# Altium footprint library XH-MegaStar_2.5mm.PcbLib: 18 footprints (part 1 of 2)
Each footprint in its own frame and in the unit in brackets; x right, y up, seen from the top. Pads: shape width x height; smd on the part's side, far side on the other; paste and mask are expansions set on the pad; w line width, h text height; cw(c..) or ccw(c..) is an arc to the next point about the centre after c.
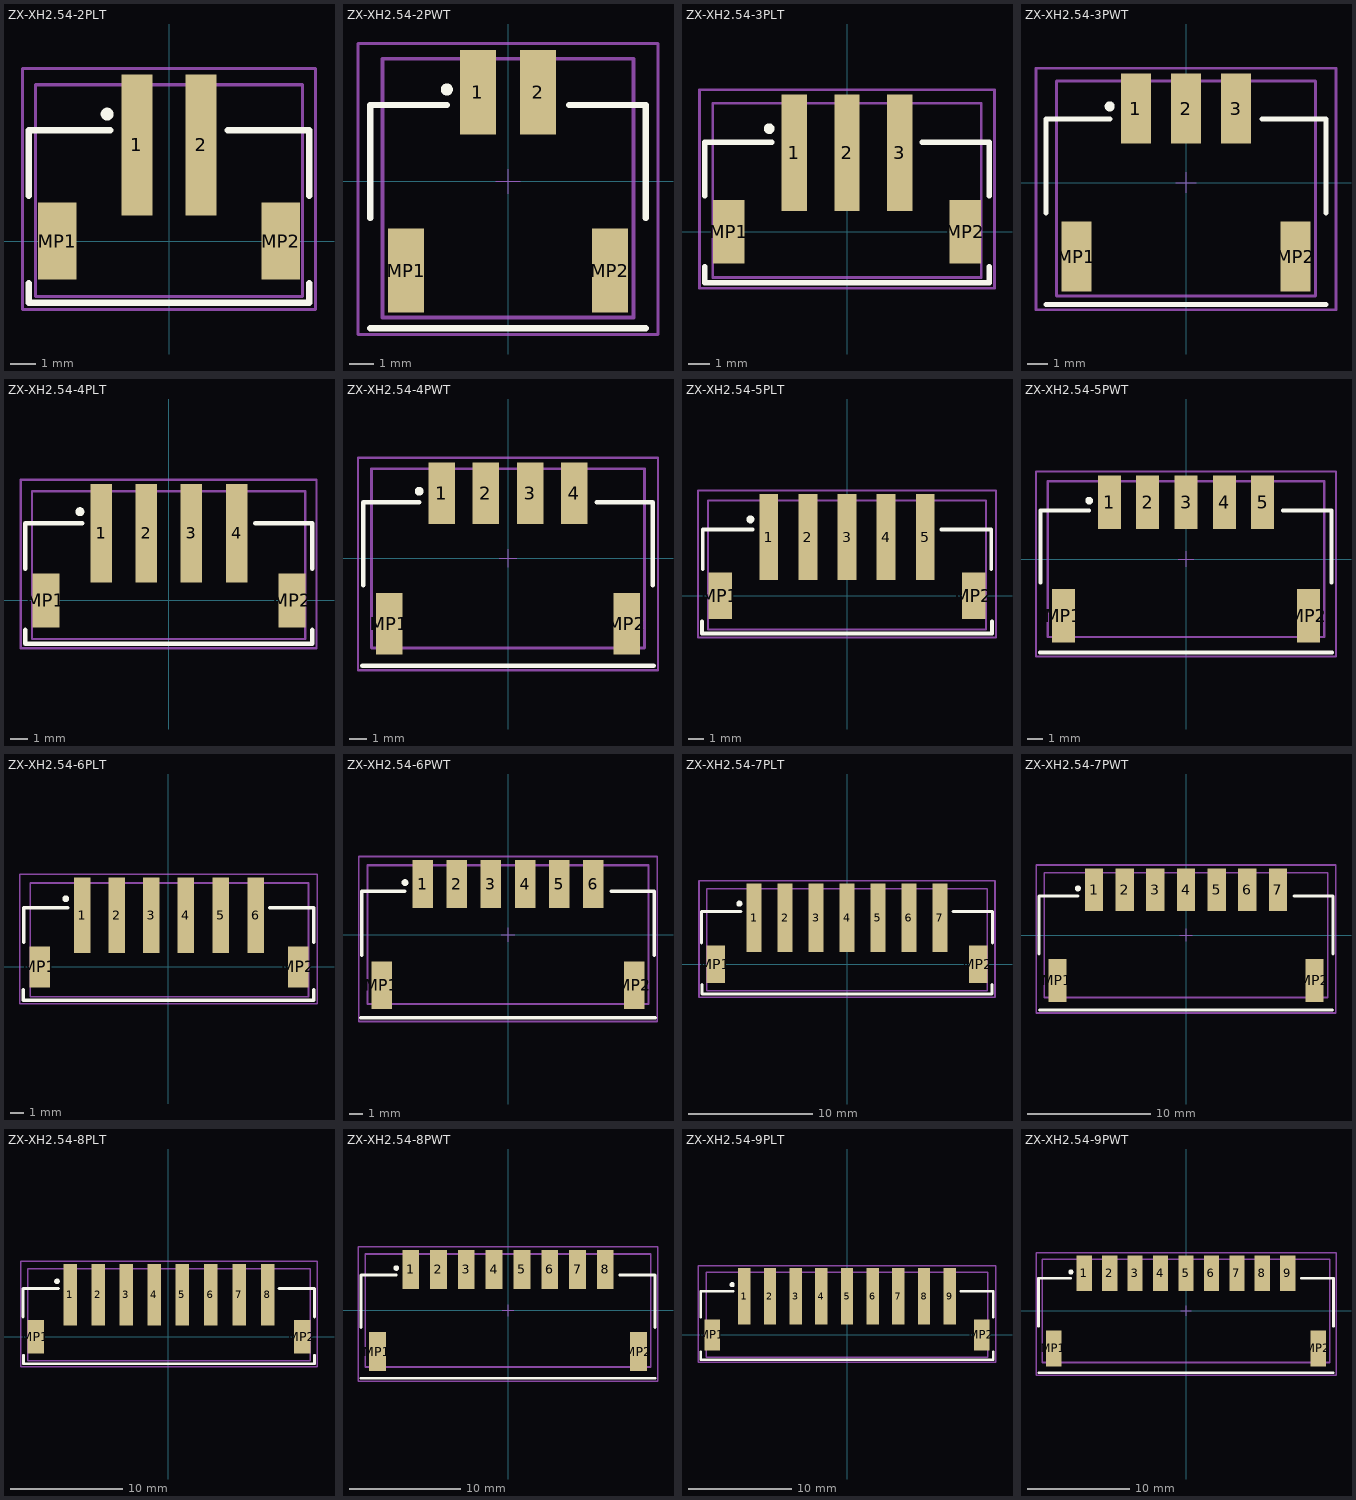
[diagram p0: the footprints below, top view; thin cyan lines are the x and y axes]

## ZX-XH2.54-2PLT [mm]
pads (4):
  rect 1.2x5.5 smd: 1(-1.25,3.75) 2(1.25,3.75)
  rect 1.5x3 smd: MP1(-4.35,0) MP2(4.35,0)
Top Overlay:
  circle w0.25: c-2.413,4.953 r0.125
  lines w0.254: -5.461,-1.651 -5.461,-2.413 5.461,-2.413 5.461,-1.651 ; -5.461,1.778 -5.461,4.318 -2.286,4.318 ; 2.286,4.318 5.461,4.318 5.461,1.778
Top Designator:
  text ".Designator" at -5.998,-0.4 h1.2
Mechanical 13:
  lines w0.127: -5.207,-2.159 5.207,-2.159 5.207,6.096 -5.207,6.096 -5.207,-2.159
Mechanical 15:
  lines w0.127: -5.715,-2.667 -5.715,6.731 5.715,6.731 5.715,-2.667 -5.715,-2.667
3D body: height 8, standoff 0, extent -5.08,-2.032 5.08,3.937
3D body: height 0.64, standoff 0, extent -1.587,3.937 -0.953,5.683
3D body: height 0.64, standoff 0, extent 0.953,3.937 1.587,5.683

## ZX-XH2.54-2PWT [mm]
pads (4):
  rect 1.5x3.5 smd: 1(-1.25,3.7) 2(1.25,3.7) MP1(-4.23,-3.7) MP2(4.23,-3.7)
Top Overlay:
  circle w0.25: c-2.54,3.81 r0.125
  lines w0.254: -5.715,-6.096 5.715,-6.096 ; -5.715,-1.524 -5.715,3.175 -2.54,3.175 ; 2.54,3.175 5.715,3.175 5.715,-1.524
Top Designator:
  text ".Designator" at -5.998,-0.4 h1.2
Mechanical 13:
  lines w0.152: -5.207,-5.651 5.207,-5.651 5.207,5.08 -5.207,5.08 -5.207,-5.651
Mechanical 15:
  lines w0.05: -0.508,0 0.508,0 ; 0,-0.508 0,0.508
  lines w0.127: -6.223,-6.35 -6.223,5.715 6.223,5.715 6.223,-6.35 -6.223,-6.35
3D body "JST - XH - SMD (R) - 2Pin - 2.54mm.stp": height 5.92, standoff 0, extent -5.067,-5.016 5.067,4.89

## ZX-XH2.54-3PLT [mm]
pads (5):
  rect 1.2x5.5 smd: 1(-2.5,3.75) 2(0,3.75) 3(2.5,3.75)
  rect 1.5x3 smd: MP1(-5.6,0) MP2(5.6,0)
Top Overlay:
  circle w0.25: c-3.683,4.886 r0.125
  lines w0.254: -6.731,-1.651 -6.731,-2.413 6.731,-2.413 6.731,-1.651 ; -6.731,1.711 -6.731,4.251 -3.556,4.251 ; 3.556,4.251 6.731,4.251 6.731,1.711
Top Designator:
  text ".Designator" at -5.998,-0.4 h1.2
Mechanical 13:
  lines w0.127: -6.35,-2.159 6.35,-2.159 6.35,6.096 -6.35,6.096 -6.35,-2.159
Mechanical 15:
  lines w0.127: -6.985,-2.667 -6.985,6.731 6.985,6.731 6.985,-2.667 -6.985,-2.667
3D body: height 8, standoff 0, extent -6.223,-2.032 6.223,3.937
3D body: height 0.64, standoff 0, extent -2.818,3.937 -2.183,5.683
3D body: height 0.64, standoff 0, extent -0.318,3.937 0.318,5.683
3D body: height 0.64, standoff 0, extent 2.183,3.937 2.818,5.683

## ZX-XH2.54-3PWT [mm] "2.54mm Male Left Angled Header Bottom Locking, 3p, SMD"
height 5.8
pads (5):
  rect 1.5x3.5 smd: 1(-2.5,3.7) 2(0,3.7) 3(2.5,3.7) MP1(-5.48,-3.7) MP2(5.48,-3.7)
Top Overlay:
  circle w0.25: c-3.81,3.81 r0.125
  lines w0.254: -6.985,-6.096 6.985,-6.096 ; -6.985,-1.524 -6.985,3.175 -3.81,3.175 ; 3.81,3.175 6.985,3.175 6.985,-1.524
Top Designator:
  text ".Designator" at -5.998,-0.4 h1.2
Mechanical 13:
  lines w0.152: -6.477,-5.651 -6.477,5.08 6.477,5.08 6.477,-5.651 -6.477,-5.651
Mechanical 15:
  lines w0.05: -0.508,0 0.508,0 ; 0,-0.508 0,0.508
  lines w0.127: -7.493,-6.35 -7.493,5.715 7.493,5.715 7.493,-6.35 -7.493,-6.35
3D body "JST - XH - SMD (R) - 3Pin - 2.54mm.stp": height 5.92, standoff 0, extent -6.337,-4.953 6.337,4.953

## ZX-XH2.54-4PLT [mm]
pads (6):
  rect 1.2x5.5 smd: 1(-3.75,3.75) 2(-1.25,3.75) 3(1.25,3.75) 4(3.79,3.75)
  rect 1.5x3 smd: MP1(-6.85,0) MP2(6.89,0)
Top Overlay:
  circle w0.25: c-4.953,4.953 r0.125
  lines w0.254: -8.001,-1.651 -8.001,-2.413 8.001,-2.413 8.001,-1.651 ; -8.001,1.778 -8.001,4.318 -4.826,4.318 ; 4.826,4.318 8.001,4.318 8.001,1.778
Top Designator:
  text ".Designator" at -5.998,-0.4 h1.2
Mechanical 13:
  lines w0.127: -7.62,-2.159 7.62,-2.159 7.62,6.096 -7.62,6.096 -7.62,-2.159
Mechanical 15:
  lines w0.127: -8.255,-2.667 -8.255,6.731 8.255,6.731 8.255,-2.667 -8.255,-2.667
3D body: height 0.64, standoff 0, extent 3.492,3.937 4.127,5.683
3D body: height 0.64, standoff 0, extent -4.088,3.937 -3.453,5.683
3D body: height 8, standoff 0, extent -7.493,-2.032 7.493,3.937
3D body: height 0.64, standoff 0, extent -1.587,3.937 -0.953,5.683
3D body: height 0.64, standoff 0, extent 0.953,3.937 1.587,5.683

## ZX-XH2.54-4PWT [mm] "2.54mm Male Left Angled Header Bottom Locking, 4p, SMD"
pads (6):
  rect 1.5x3.5 smd: 1(-3.75,3.7) 2(-1.25,3.7) 3(1.25,3.7) 4(3.75,3.7) MP1(-6.73,-3.7) MP2(6.73,-3.7)
Top Overlay:
  circle w0.25: c-5.04,3.81 r0.125
  lines w0.254: -8.255,-6.096 8.255,-6.096 ; -8.215,-1.524 -8.215,3.175 -5.04,3.175 ; 5.04,3.175 8.215,3.175 8.215,-1.524
Top Designator:
  text ".Designator" at -5.998,-0.4 h1.2
Mechanical 13:
  lines w0.152: -7.747,-5.08 -7.747,5.08 7.747,5.08 7.747,-5.08 -7.747,-5.08
Mechanical 15:
  lines w0.05: -0.508,0 0.508,0 ; 0,-0.508 0,0.508
  lines w0.127: -8.509,-6.35 8.509,-6.35 8.509,5.715 -8.509,5.715 -8.509,-6.35
3D body "JST - XH - SMD (R) - 4Pin - 2.54mm.stp": height 5.92, standoff 0, extent -7.607,-4.953 7.607,4.953

## ZX-XH2.54-5PLT [mm]
pads (7):
  rect 1.2x5.5 smd: 1(-5,3.75) 2(-2.5,3.75) 3(0,3.75) 4(2.5,3.75) 5(5,3.75)
  rect 1.5x3 smd: MP1(-8.1,0) MP2(8.1,0)
Top Overlay:
  circle w0.25: c-6.183,4.886 r0.125
  lines w0.254: -9.271,-1.651 -9.271,-2.413 9.271,-2.413 9.271,-1.651 ; -9.231,1.711 -9.231,4.251 -6.056,4.251 ; 6.056,4.251 9.231,4.251 9.231,1.711
Top Designator:
  text ".Designator" at -5.998,-0.4 h1.2
Mechanical 13:
  lines w0.127: -8.89,-2.159 8.89,-2.159 8.89,6.096 -8.89,6.096 -8.89,-2.159
Mechanical 15:
  lines w0.127: -9.525,-2.667 -9.525,6.731 9.525,6.731 9.525,-2.667 -9.525,-2.667
3D body: height 8, standoff 0, extent -8.763,-2.032 8.763,3.937
3D body: height 0.64, standoff 0, extent -2.818,3.937 -2.183,5.683
3D body: height 0.64, standoff 0, extent -0.318,3.937 0.318,5.683
3D body: height 0.64, standoff 0, extent 2.183,3.937 2.818,5.683
3D body: height 0.64, standoff 0, extent -5.318,3.937 -4.683,5.683
3D body: height 0.64, standoff 0, extent 4.683,3.937 5.318,5.683

## ZX-XH2.54-5PWT [mm] "2.54mm Male Left Angled Header Bottom Locking, 5p, SMD"
height 5.8
pads (7):
  rect 1.5x3.5 smd: 1(-5,3.7) 2(-2.5,3.7) 3(0,3.7) 4(2.5,3.7) 5(5,3.7) MP1(-7.98,-3.7) MP2(7.98,-3.7)
Top Overlay:
  circle w0.25: c-6.31,3.81 r0.125
  lines w0.254: -9.525,-6.096 9.525,-6.096 ; -9.485,-1.524 -9.485,3.175 -6.31,3.175 ; 6.31,3.175 9.485,3.175 9.485,-1.524
Top Designator:
  text ".Designator" at -5.998,-0.4 h1.2
Mechanical 13:
  lines w0.152: -9.017,-5.08 -9.017,5.08 9.017,5.08 9.017,-5.08 -9.017,-5.08
Mechanical 15:
  lines w0.05: -0.508,0 0.508,0 ; 0,-0.508 0,0.508
  lines w0.127: -9.779,-6.35 -9.779,5.715 9.779,5.715 9.779,-6.35 -9.779,-6.35
3D body "JST - XH - SMD (R) - 5Pin - 2.54mm.stp": height 5.92, standoff 0, extent -8.877,-4.953 8.877,4.953

## ZX-XH2.54-6PLT [mm]
pads (8):
  rect 1.2x5.5 smd: 1(-6.25,3.75) 2(-3.75,3.75) 3(-1.25,3.75) 4(1.25,3.75) 5(3.79,3.75) 6(6.33,3.75)
  rect 1.5x3 smd: MP1(-9.35,0) MP2(9.43,0)
Top Overlay:
  circle w0.25: c-7.453,4.953 r0.125
  lines w0.254: -10.541,-1.651 -10.541,-2.413 10.541,-2.413 10.541,-1.651 ; -10.501,1.778 -10.501,4.318 -7.326,4.318 ; 7.366,4.318 10.541,4.318 10.541,1.778
Top Designator:
  text ".Designator" at -5.998,-0.4 h1.2
Mechanical 13:
  lines w0.127: -10.033,-2.159 -10.033,6.096 10.16,6.096 10.16,-2.159 -10.033,-2.159
Mechanical 15:
  lines w0.127: -10.795,-2.667 10.795,-2.667 10.795,6.731 -10.795,6.731 -10.795,-2.667
3D body: height 0.64, standoff 0, extent 5.993,3.937 6.628,5.683
3D body: height 0.64, standoff 0, extent -6.588,3.937 -5.953,5.683
3D body: height 0.64, standoff 0, extent 0.953,3.937 1.587,5.683
3D body: height 0.64, standoff 0, extent -1.587,3.937 -0.953,5.683
3D body: height 8, standoff 0, extent -9.906,-2.032 10.033,3.937
3D body: height 0.64, standoff 0, extent -4.088,3.937 -3.453,5.683
3D body: height 0.64, standoff 0, extent 3.492,3.937 4.127,5.683

## ZX-XH2.54-6PWT [mm] "2.54mm Male Left Angled Header Bottom Locking, 6p, SMD"
pads (8):
  rect 1.5x3.5 smd: 1(-6.25,3.7) 2(-3.75,3.7) 3(-1.25,3.7) 4(1.25,3.7) 5(3.75,3.7) 6(6.25,3.7) MP1(-9.23,-3.7) MP2(9.23,-3.7)
Top Overlay:
  circle w0.25: c-7.54,3.81 r0.125
  lines w0.254: -10.795,-6.096 10.795,-6.096 ; -10.715,-1.524 -10.715,3.175 -7.54,3.175 ; 7.54,3.175 10.715,3.175 10.715,-1.524
Top Designator:
  text ".Designator" at -5.998,-0.4 h1.2
Mechanical 13:
  lines w0.152: -10.287,-5.08 10.287,-5.08 10.287,5.08 -10.287,5.08 -10.287,-5.08
Mechanical 15:
  lines w0.05: -0.508,0 0.508,0 ; 0,-0.508 0,0.508
  lines w0.127: -10.922,-6.35 -10.922,5.715 10.922,5.715 10.922,-6.35 -10.922,-6.35
3D body "JST - XH - SMD (R) - 6Pin - 2.54mm.stp": height 5.92, standoff 0, extent -10.147,-4.953 10.147,4.953

## ZX-XH2.54-7PLT [mm]
pads (9):
  rect 1.2x5.5 smd: 1(-7.5,3.75) 2(-5,3.75) 3(-2.5,3.75) 4(0,3.75) 5(2.5,3.75) 6(5,3.75) 7(7.5,3.75)
  rect 1.5x3 smd: MP1(-10.6,0) MP2(10.6,0)
Top Overlay:
  circle w0.25: c-8.683,4.886 r0.125
  lines w0.254: -11.731,1.711 -11.731,4.251 -8.556,4.251 ; -11.684,-1.651 -11.684,-2.413 11.684,-2.413 11.684,-1.651 ; 8.556,4.251 11.731,4.251 11.731,1.711
Top Designator:
  text ".Designator" at -5.998,-0.4 h1.2
Mechanical 13:
  lines w0.127: -11.303,-2.159 -11.303,6.096 11.303,6.096 11.303,-2.159 -11.303,-2.159
Mechanical 15:
  lines w0.127: -11.938,-2.667 11.938,-2.667 11.938,6.731 -11.938,6.731 -11.938,-2.667
3D body: height 0.64, standoff 0, extent 7.183,3.937 7.818,5.683
3D body: height 0.64, standoff 0, extent -7.818,3.937 -7.183,5.683
3D body: height 0.64, standoff 0, extent 4.683,3.937 5.318,5.683
3D body: height 0.64, standoff 0, extent -5.318,3.937 -4.683,5.683
3D body: height 0.64, standoff 0, extent 2.183,3.937 2.818,5.683
3D body: height 0.64, standoff 0, extent -0.318,3.937 0.318,5.683
3D body: height 0.64, standoff 0, extent -2.818,3.937 -2.183,5.683
3D body: height 8, standoff 0, extent -11.176,-2.032 11.176,3.937

## ZX-XH2.54-7PWT [mm] "2.54mm Male Left Angled Header Bottom Locking, 7p, SMD"
height 5.8
pads (9):
  rect 1.5x3.5 smd: 1(-7.5,3.7) 2(-5,3.7) 3(-2.5,3.7) 4(0,3.7) 5(2.5,3.7) 6(5,3.7) 7(7.5,3.7) MP1(-10.48,-3.7) MP2(10.48,-3.7)
Top Overlay:
  circle w0.25: c-8.81,3.81 r0.125
  lines w0.254: -11.985,-1.524 -11.985,3.175 -8.81,3.175 ; -11.938,-6.096 11.938,-6.096 ; 8.81,3.175 11.985,3.175 11.985,-1.524
Top Designator:
  text ".Designator" at -5.998,-0.4 h1.2
Mechanical 13:
  lines w0.152: -11.557,-5.08 11.557,-5.08 11.557,5.08 -11.557,5.08 -11.557,-5.08
Mechanical 15:
  lines w0.05: -0.508,0 0.508,0 ; 0,-0.508 0,0.508
  lines w0.127: -12.192,-6.35 12.192,-6.35 12.192,5.715 -12.192,5.715 -12.192,-6.35
3D body "JST - XH - SMD (R) - 7Pin - 2.54mm.stp": height 5.92, standoff 0, extent -11.417,-4.953 11.417,4.953

## ZX-XH2.54-8PLT [mm]
pads (10):
  rect 1.2x5.5 smd: 1(-8.75,3.75) 2(-6.25,3.75) 3(-3.75,3.75) 4(-1.25,3.75) 5(1.25,3.75) 6(3.79,3.75) 7(6.33,3.75) 8(8.87,3.75)
  rect 1.5x3 smd: MP1(-11.85,0) MP2(11.97,0)
Top Overlay:
  circle w0.25: c-9.953,4.953 r0.125
  lines w0.254: -13.001,1.778 -13.001,4.318 -9.826,4.318 ; -12.954,-1.651 -12.954,-2.413 13.081,-2.413 13.081,-1.651 ; 9.906,4.318 13.081,4.318 13.081,1.778
Top Designator:
  text ".Designator" at -5.998,-0.4 h1.2
Mechanical 13:
  lines w0.127: -12.573,-2.159 -12.573,6.096 12.7,6.096 12.7,-2.159 -12.573,-2.159
Mechanical 15:
  lines w0.127: -13.208,-2.667 13.335,-2.667 13.335,6.731 -13.208,6.731 -13.208,-2.667
3D body: height 0.64, standoff 0, extent 5.993,3.937 6.628,5.683
3D body: height 0.64, standoff 0, extent -6.588,3.937 -5.953,5.683
3D body: height 0.64, standoff 0, extent 0.953,3.937 1.587,5.683
3D body: height 0.64, standoff 0, extent -1.587,3.937 -0.953,5.683
3D body: height 8, standoff 0, extent -12.446,-2.032 12.573,3.937
3D body: height 0.64, standoff 0, extent -4.088,3.937 -3.453,5.683
3D body: height 0.64, standoff 0, extent 3.492,3.937 4.127,5.683
3D body: height 0.64, standoff 0, extent -9.088,3.937 -8.453,5.683
3D body: height 0.64, standoff 0, extent 8.533,3.937 9.168,5.683

## ZX-XH2.54-8PWT [mm] "2.54mm Male Left Angled Header Bottom Locking, 8p, SMD"
pads (10):
  rect 1.5x3.5 smd: 1(-8.75,3.7) 2(-6.25,3.7) 3(-3.75,3.7) 4(-1.25,3.7) 5(1.25,3.7) 6(3.75,3.7) 7(6.25,3.7) 8(8.75,3.7) MP1(-11.73,-3.7) MP2(11.73,-3.7)
Top Overlay:
  circle w0.25: c-10.04,3.81 r0.125
  lines w0.254: -13.215,-1.524 -13.215,3.175 -10.04,3.175 ; -13.208,-6.096 13.208,-6.096 ; 10.04,3.175 13.215,3.175 13.215,-1.524
Top Designator:
  text ".Designator" at -5.998,-0.4 h1.2
Mechanical 13:
  lines w0.152: -12.827,-5.08 12.827,-5.08 12.827,5.08 -12.827,5.08 -12.827,-5.08
Mechanical 15:
  lines w0.05: -0.508,0 0.508,0 ; 0,-0.508 0,0.508
  lines w0.127: -13.462,-6.35 -13.462,5.715 13.462,5.715 13.462,-6.35 -13.462,-6.35
3D body "JST - XH - SMD (R) - 8Pin - 2.54mm.stp": height 5.92, standoff 0, extent -12.687,-4.953 12.687,4.953

## ZX-XH2.54-9PLT [mm]
pads (11):
  rect 1.2x5.5 smd: 1(-10,3.75) 2(-7.5,3.75) 3(-5,3.75) 4(-2.5,3.75) 5(0,3.75) 6(2.5,3.75) 7(5,3.75) 8(7.5,3.75) 9(10,3.75)
  rect 1.5x3 smd: MP1(-13.1,0) MP2(13.1,0)
Top Overlay:
  circle w0.25: c-11.183,4.886 r0.125
  lines w0.254: -14.231,1.711 -14.231,4.251 -11.056,4.251 ; -14.224,-1.651 -14.224,-2.413 14.224,-2.413 14.224,-1.651 ; 11.056,4.251 14.231,4.251 14.231,1.711
Top Designator:
  text ".Designator" at -5.998,-0.4 h1.2
Mechanical 13:
  lines w0.127: -13.716,-2.159 13.716,-2.159 13.716,6.096 -13.716,6.096 -13.716,-2.159
Mechanical 15:
  lines w0.127: -14.478,-2.667 -14.478,6.731 14.478,6.731 14.478,-2.667 -14.478,-2.667
3D body: height 0.64, standoff 0, extent 9.683,3.937 10.318,5.683
3D body: height 0.64, standoff 0, extent -10.318,3.937 -9.683,5.683
3D body: height 8, standoff 0, extent -13.589,-2.032 13.589,3.937
3D body: height 0.64, standoff 0, extent -2.818,3.937 -2.183,5.683
3D body: height 0.64, standoff 0, extent -0.318,3.937 0.318,5.683
3D body: height 0.64, standoff 0, extent 2.183,3.937 2.818,5.683
3D body: height 0.64, standoff 0, extent -5.318,3.937 -4.683,5.683
3D body: height 0.64, standoff 0, extent 4.683,3.937 5.318,5.683
3D body: height 0.64, standoff 0, extent -7.818,3.937 -7.183,5.683
3D body: height 0.64, standoff 0, extent 7.183,3.937 7.818,5.683

## ZX-XH2.54-9PWT [mm] "2.54mm Male Left Angled Header Bottom Locking, 9p, SMD"
height 5.8
pads (11):
  rect 1.5x3.5 smd: 1(-10,3.7) 2(-7.5,3.7) 3(-5,3.7) 4(-2.5,3.7) 5(0,3.7) 6(2.5,3.7) 7(5,3.7) 8(7.5,3.7) 9(10,3.7) MP1(-12.98,-3.7) MP2(12.98,-3.7)
Top Overlay:
  circle w0.25: c-11.31,3.81 r0.125
  lines w0.254: -14.485,-1.524 -14.485,3.175 -11.31,3.175 ; -14.478,-6.096 14.478,-6.096 ; 11.31,3.175 14.485,3.175 14.485,-1.524
Top Designator:
  text ".Designator" at -5.998,-0.4 h1.2
Mechanical 13:
  lines w0.152: -14.097,-5.08 14.097,-5.08 14.097,5.08 -14.097,5.08 -14.097,-5.08
Mechanical 15:
  lines w0.05: -0.508,0 0.508,0 ; 0,-0.508 0,0.508
  lines w0.127: -14.732,-6.35 14.732,-6.35 14.732,5.715 -14.732,5.715 -14.732,-6.35
3D body "JST - XH - SMD (R) - 9Pin - 2.54mm.stp": height 5.92, standoff 0, extent -13.957,-4.953 13.957,4.953